# Altium schematic symbol library C0805C475M4RACAUTO.SchLib: 1 symbol
Pins are listed as number, name and electrical type; pins without a type are passive.

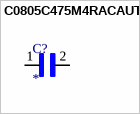
[diagram p0: symbol C0805C475M4RACAUTO]

## C0805C475M4RACAUTO
designator C?
MP: C0805C475M4RACAUTO; Package: None; Price: None; Value: *; Availability: Unavailable
footprint CAPC2012X140N
pins: 1, 2